# Altium schematic symbol library EC.SchLib: 1 symbol
Pins are listed as number, name and electrical type; pins without a type are passive.

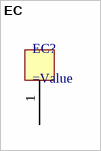
[diagram p0: symbol EC]

## EC
designator EC?
=Description
pins: 1 EC